# Altium schematic symbol library DetectorOptode.SchLib: 3 symbols
Pins are listed as number, name and electrical type; pins without a type are passive.

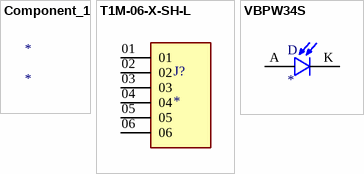
[diagram p0: symbols Component_1 to VBPW34S]

## Component_1
designator *

## T1M-06-X-SH-L
designator J?
Connector Header Surface Mount, Right Angle 6 position 0.039" (1.00mm); MF: Samtec; MP: T1M-06-X-SH-L; Availability: Unavailable; Value: *; Price: None; Package: None
footprint SAMTEC_T1M-06-X-SH-L
pins: 01, 02, 03, 04, 05, 06

## VBPW34S
designator D
Photodiode 940nm 100ns 130Â° 2-SMD, Gull Wing; MP: VBPW34S; MF: Vishay; Price: None; Value: *; Package: SMD-2 Vishay; SnapEDA_Link: https://www.snapeda.com/parts/VBPW34S/Vishay%20Semiconductor%20Opto%20Division/view-part/139260/?ref=snap; Availability: Unavailable
footprint XDCR_VBPW34S
pins: A, K C